# EAGLE library part KSZ8081RNBIA-TR (library KSZ8081RNBIA-TR)
MICROCHIP - KSZ8081RNBIA-TR - ETHERNET TXRX, 100MBPS, QFN-32 Source: Datasheet <http://ww1.microchip.com/downloads/en/DeviceDoc/KSZ8081MNX-RNB.pdf>
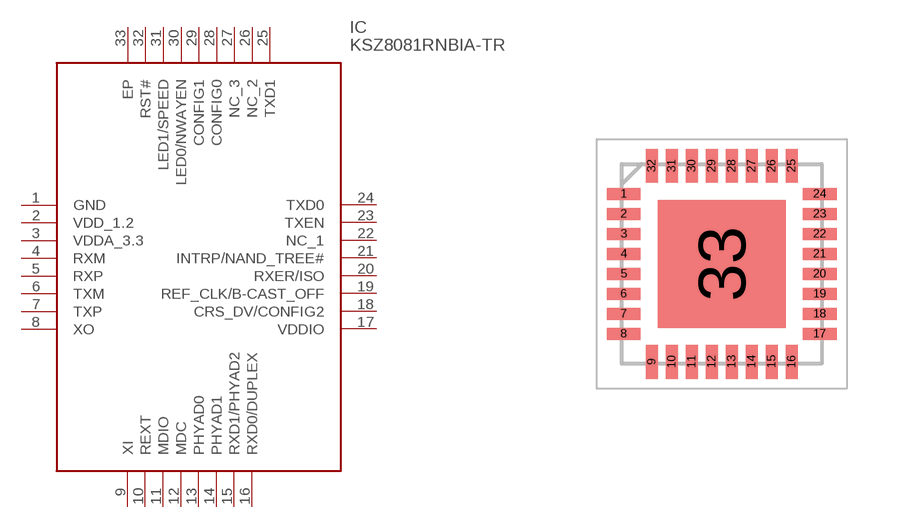
[diagram p0: symbol with the pads of QFN50P500X500X100-33N; footprint QFN50P500X500X100-33N]

Designator prefix IC

## KSZ8081RNBIA-TR (Description: MICROCHIP - KSZ8081RNBIA-TR - ETHERNET TXRX, 100MBPS, QFN-32; Height: 1mm; Manufacturer_Name: Microchip; Manufacturer_Part_Number: KSZ8081RNBIA-TR; Mouser_Part_Number: 998-KSZ8081RNBIATR; Mouser_Price-Stock: https://www.mouser.co.uk/ProductDetail/Microchip-Technology/KSZ8081RNBIA-TR?qs=U6T8BxXiZAWQ18bSfvq2UQ%3D%3D)  [QFN50P500X500X100-33N]
1  GND  pwr
2  VDD_1.2  pwr
3  VDDA_3.3  pwr
4  RXM
5  RXP
6  TXM
7  TXP
8  XO
9  XI
10  REXT
11  MDIO
12  MDC
13  PHYAD0
14  PHYAD1
15  RXD1/PHYAD2
16  RXD0/DUPLEX
17  VDDIO  pwr
18  CRS_DV/CONFIG2
19  REF_CLK/B-CAST_OFF  in
20  RXER/ISO
21  INTRP/NAND_TREE#  in
22  NC_1
23  TXEN
24  TXD0
25  TXD1
26  NC_2
27  NC_3
28  CONFIG0
29  CONFIG1
30  LED0/NWAYEN
31  LED1/SPEED
32  RST#  in
33  EP

## Footprint QFN50P500X500X100-33N (pad centres in mm)
32-QFN Pin
smd 0.85 x 0.3: 1 -2.45,1.75; 2 -2.45,1.25; 3 -2.45,0.75; 4 -2.45,0.25; 5 -2.45,-0.25; 6 -2.45,-0.75; 7 -2.45,-1.25; 8 -2.45,-1.75; 17 2.45,-1.75; 18 2.45,-1.25; 19 2.45,-0.75; 20 2.45,-0.25; 21 2.45,0.25; 22 2.45,0.75; 23 2.45,1.25; 24 2.45,1.75
smd 0.3 x 0.85: 9 -1.75,-2.45; 10 -1.25,-2.45; 11 -0.75,-2.45; 12 -0.25,-2.45; 13 0.25,-2.45; 14 0.75,-2.45; 15 1.25,-2.45; 16 1.75,-2.45; 25 1.75,2.45; 26 1.25,2.45; 27 0.75,2.45; 28 0.25,2.45; 29 -0.25,2.45; 30 -0.75,2.45; 31 -1.25,2.45; 32 -1.75,2.45
smd 3.2 x 3.2: 33 0,0